# Altium integrated library NSC Logic Multiplexer.IntLib: 335 symbols (part 4 of 7)
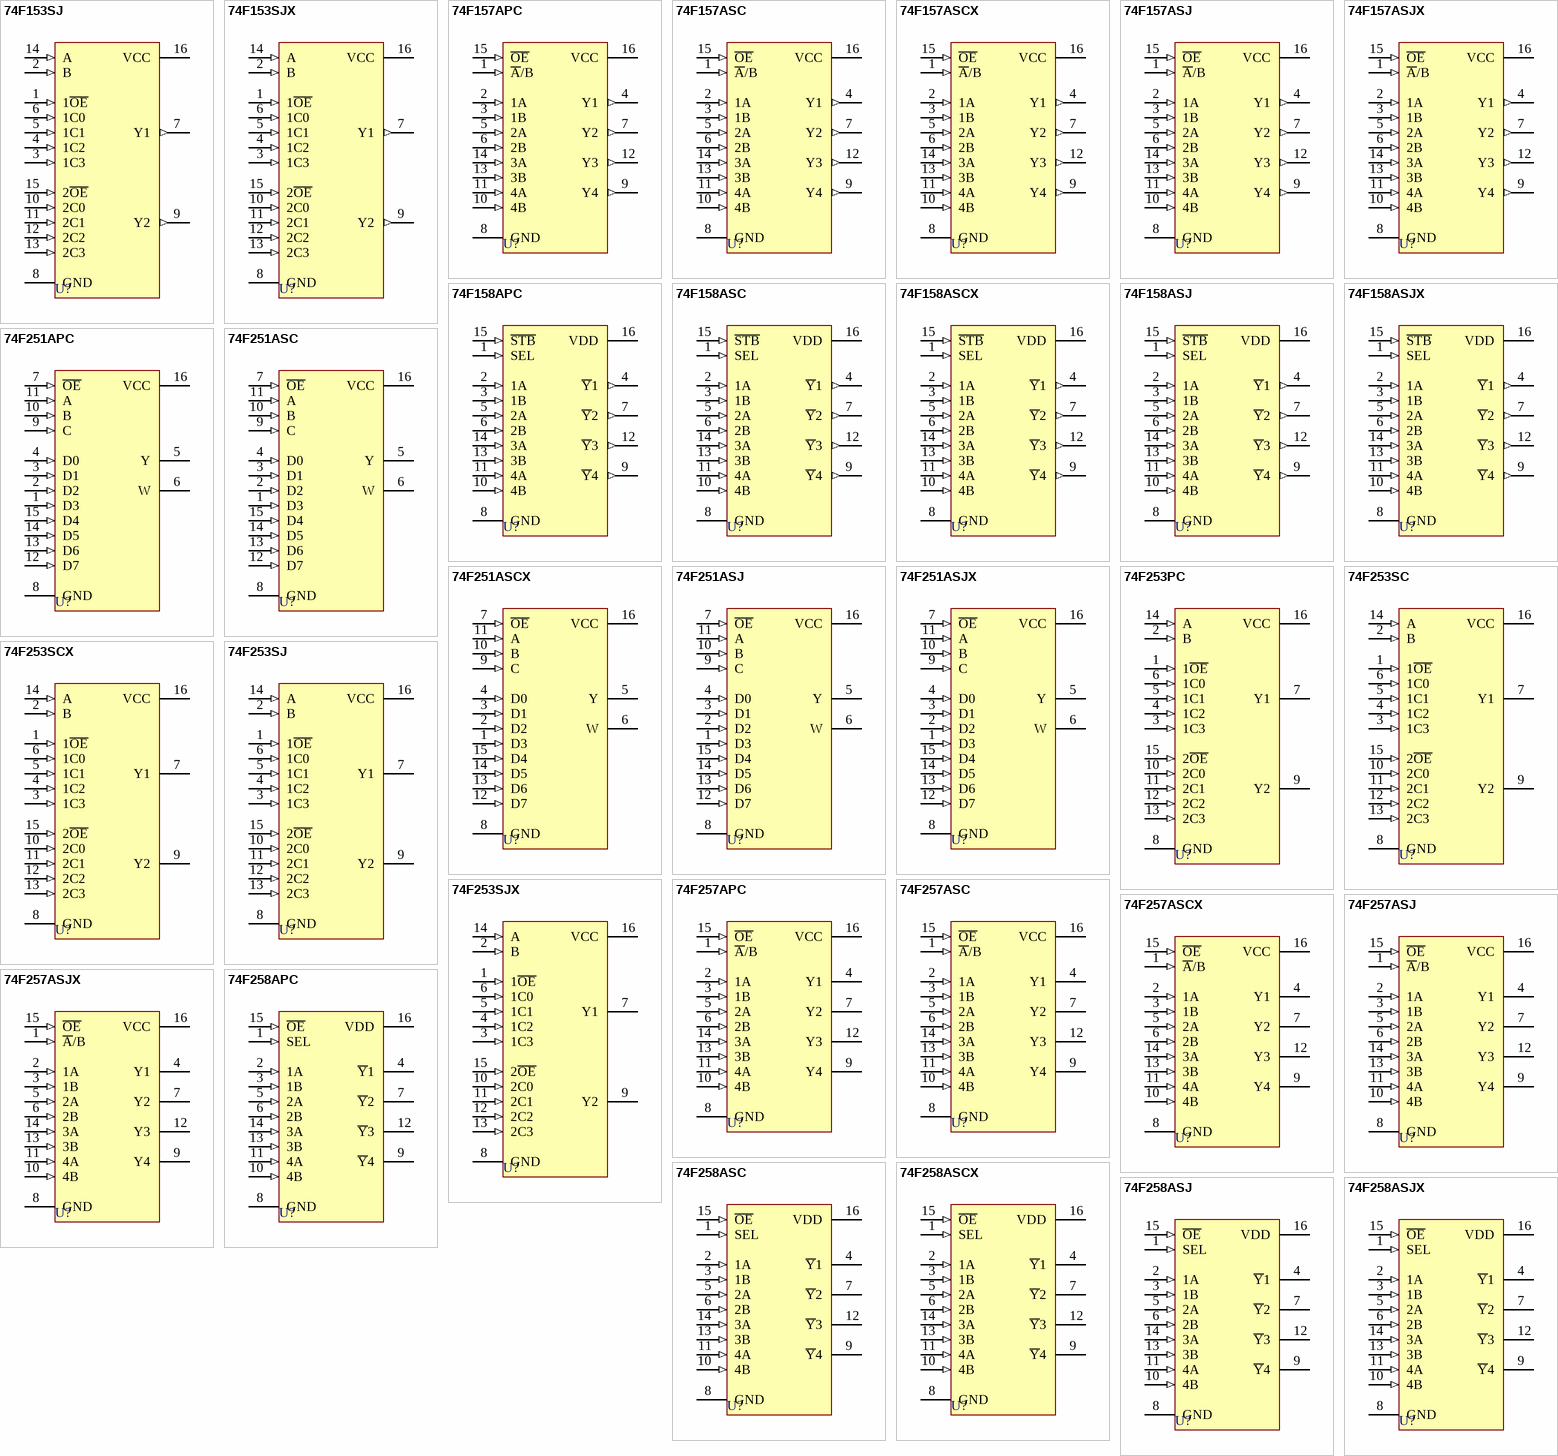
[diagram p13: symbols 74F153SJ to 74F258ASJX]

## 74F158ASC
designator U?
Quad 2-Input Multiplexer; Published: 15-Apr-2002; LatestRevisionDate: 13-Apr-2006; LatestRevisionNote: IPC-7351 Footprint Added.; DatasheetVersion: Nov-1994; PackageVersion: 2000; PackageReference: M16A; Publisher: Altium Limited; PackageDescription: 16-Pin Small Outline Integrated Circuit 1.27 mm Pitch; Code_IPC: SOIC127P600-16; ComponentLink1Description: Manufacturer Link; ComponentLink1URL: http://www.national.com/; ComponentLink2Description: Datasheet; ComponentLink2URL: http://www.fairchildsemi.com/ds/74/74F158A.pdf; ComponentLink3Description: URL Link1; ComponentLink3URL: http://www.fairchildsemi.com/pf/74/74F158A.html
footprint M16A_N (SOIC, 16-Leads, Body 9.9x3.9mm, Pitch 1.27mm, IPC Medium Density)
footprint M16A_L (SOIC, 16-Leads, Body 9.9x3.9mm, Pitch 1.27mm, IPC High Density)
footprint M16A_M (SOIC, 16-Leads, Body 9.9x3.9mm, Pitch 1.27mm, IPC Low Density)
3D model M16A (16-Pin Small Outline Integrated Circuit 1.27 mm Pitch)
simulation model 74F158A (SIMCODE)
signal-integrity model 74F158ASC
pins: 1 SEL (in), 2 1A (in), 3 1B (in), 4 ~{Y}1 (out), 5 2A (in), 6 2B (in), 7 ~{Y}2 (out), 8 GND (power), 9 ~{Y}4 (out), 10 4B (in), 11 4A (in), 12 ~{Y}3 (out), 13 3B (in), 14 3A (in), 15 ~{STB} (in), 16 VDD (power)

## 74F158ASCX
designator U?
Quad 2-Input Multiplexer; Published: 15-Apr-2002; LatestRevisionDate: 13-Apr-2006; LatestRevisionNote: IPC-7351 Footprint Added.; DatasheetVersion: Nov-1994; PackageVersion: 2000; PackageReference: M16A; Publisher: Altium Limited; PackageDescription: 16-Pin Small Outline Integrated Circuit 1.27 mm Pitch; Code_IPC: SOIC127P600-16; ComponentLink1Description: Manufacturer Link; ComponentLink1URL: http://www.national.com/; ComponentLink2Description: Datasheet; ComponentLink2URL: http://www.fairchildsemi.com/ds/74/74F158A.pdf; ComponentLink3Description: URL Link1; ComponentLink3URL: http://www.fairchildsemi.com/pf/74/74F158A.html
footprint M16A_N (SOIC, 16-Leads, Body 9.9x3.9mm, Pitch 1.27mm, IPC Medium Density)
footprint M16A_L (SOIC, 16-Leads, Body 9.9x3.9mm, Pitch 1.27mm, IPC High Density)
footprint M16A_M (SOIC, 16-Leads, Body 9.9x3.9mm, Pitch 1.27mm, IPC Low Density)
3D model M16A (16-Pin Small Outline Integrated Circuit 1.27 mm Pitch)
simulation model 74F158A (SIMCODE)
signal-integrity model 74F158ASCX
pins: 1 SEL (in), 2 1A (in), 3 1B (in), 4 ~{Y}1 (out), 5 2A (in), 6 2B (in), 7 ~{Y}2 (out), 8 GND (power), 9 ~{Y}4 (out), 10 4B (in), 11 4A (in), 12 ~{Y}3 (out), 13 3B (in), 14 3A (in), 15 ~{STB} (in), 16 VDD (power)

## 74F158ASJ
designator U?
Quad 2-Input Multiplexer; Published: 15-Apr-2002; LatestRevisionDate: 13-Apr-2006; LatestRevisionNote: IPC-7351 Footprint Added.; DatasheetVersion: Nov-1994; PackageVersion: 2000; PackageReference: M16D; Publisher: Altium Limited; PackageDescription: 16-Pin Small Outline Package 1.27 mm Pitch; ComponentLink1Description: Manufacturer Link; ComponentLink1URL: http://www.national.com/; ComponentLink2Description: Datasheet; ComponentLink2URL: http://www.fairchildsemi.com/ds/74/74F158A.pdf; ComponentLink3Description: URL Link1; ComponentLink3URL: http://www.fairchildsemi.com/pf/74/74F158A.html
footprint M16D_N (SOP, 16-Leads, Body 10.1x5.3mm, Pitch 1.27mm, IPC Medium Density)
footprint M16D_L (SOP, 16-Leads, Body 10.1x5.3mm, Pitch 1.27mm, IPC High Density)
footprint M16D_M (SOP, 16-Leads, Body 10.1x5.3mm, Pitch 1.27mm, IPC Low Density)
3D model M16D (16-Pin Small Outline Package 1.27 mm Pitch)
simulation model 74F158A (SIMCODE)
signal-integrity model 74F158ASJ
pins: 1 SEL (in), 2 1A (in), 3 1B (in), 4 ~{Y}1 (out), 5 2A (in), 6 2B (in), 7 ~{Y}2 (out), 8 GND (power), 9 ~{Y}4 (out), 10 4B (in), 11 4A (in), 12 ~{Y}3 (out), 13 3B (in), 14 3A (in), 15 ~{STB} (in), 16 VDD (power)

## 74F158ASJX
designator U?
Quad 2-Input Multiplexer; Published: 15-Apr-2002; LatestRevisionDate: 13-Apr-2006; LatestRevisionNote: IPC-7351 Footprint Added.; DatasheetVersion: Nov-1994; PackageVersion: 2000; PackageReference: M16D; Publisher: Altium Limited; PackageDescription: 16-Pin Small Outline Package 1.27 mm Pitch; ComponentLink1Description: Manufacturer Link; ComponentLink1URL: http://www.national.com/; ComponentLink2Description: Datasheet; ComponentLink2URL: http://www.fairchildsemi.com/ds/74/74F158A.pdf; ComponentLink3Description: URL Link1; ComponentLink3URL: http://www.fairchildsemi.com/pf/74/74F158A.html
footprint M16D_N (SOP, 16-Leads, Body 10.1x5.3mm, Pitch 1.27mm, IPC Medium Density)
footprint M16D_L (SOP, 16-Leads, Body 10.1x5.3mm, Pitch 1.27mm, IPC High Density)
footprint M16D_M (SOP, 16-Leads, Body 10.1x5.3mm, Pitch 1.27mm, IPC Low Density)
3D model M16D (16-Pin Small Outline Package 1.27 mm Pitch)
simulation model 74F158A (SIMCODE)
signal-integrity model 74F158ASJX
pins: 1 SEL (in), 2 1A (in), 3 1B (in), 4 ~{Y}1 (out), 5 2A (in), 6 2B (in), 7 ~{Y}2 (out), 8 GND (power), 9 ~{Y}4 (out), 10 4B (in), 11 4A (in), 12 ~{Y}3 (out), 13 3B (in), 14 3A (in), 15 ~{STB} (in), 16 VDD (power)

## 74F251APC
designator U?
8-Input Multiplexer with Tri-State Outputs; Published: 15-Apr-2002; LatestRevisionDate: 06-Jun-2005; LatestRevisionNote: Stylized 3D Model Added.; DatasheetVersion: Nov-1994; PackageVersion: 2000; PackageReference: N16E; Publisher: Altium Limited; PackageDescription: DIP; 16 Leads; Row Spacing 7.62 mm; Pitch 2.54 mm; ComponentLink1Description: Manufacturer Link; ComponentLink1URL: http://www.national.com/; ComponentLink2Description: Datasheet; ComponentLink2URL: http://www.fairchildsemi.com/ds/74/74F251A.pdf; ComponentLink3Description: URL Link1; ComponentLink3URL: http://www.fairchildsemi.com/pf/74/74F251A.html
footprint N16E (DIP; 16 Leads; Row Spacing 7.62 mm; Pitch 2.54 mm)
3D model J16A (DIP; 16 Leads; Row Spacing 7.62 mm; Pitch 2.54 mm)
simulation model 74F251 (SIMCODE)
signal-integrity model 74F251APC
pins: 1 D3 (in), 2 D2 (in), 3 D1 (in), 4 D0 (in), 5 Y (hiz), 6 W (hiz), 7 ~{OE} (in), 8 GND (power), 9 C (in), 10 B (in), 11 A (in), 12 D7 (in), 13 D6 (in), 14 D5 (in), 15 D4 (in), 16 VCC (power)

## 74F251ASC
designator U?
8-Input Multiplexer with Tri-State Outputs; Published: 15-Apr-2002; LatestRevisionDate: 13-Apr-2006; LatestRevisionNote: IPC-7351 Footprint Added.; DatasheetVersion: Nov-1994; PackageVersion: 2000; PackageReference: M16A; Publisher: Altium Limited; PackageDescription: 16-Pin Small Outline Integrated Circuit 1.27 mm Pitch; Code_IPC: SOIC127P600-16; ComponentLink1Description: Manufacturer Link; ComponentLink1URL: http://www.national.com/; ComponentLink2Description: Datasheet; ComponentLink2URL: http://www.fairchildsemi.com/ds/74/74F251A.pdf; ComponentLink3Description: URL Link1; ComponentLink3URL: http://www.fairchildsemi.com/pf/74/74F251A.html
footprint M16A_N (SOIC, 16-Leads, Body 9.9x3.9mm, Pitch 1.27mm, IPC Medium Density)
footprint M16A_L (SOIC, 16-Leads, Body 9.9x3.9mm, Pitch 1.27mm, IPC High Density)
footprint M16A_M (SOIC, 16-Leads, Body 9.9x3.9mm, Pitch 1.27mm, IPC Low Density)
3D model M16A (16-Pin Small Outline Integrated Circuit 1.27 mm Pitch)
simulation model 74F251 (SIMCODE)
signal-integrity model 74F251ASC
pins: 1 D3 (in), 2 D2 (in), 3 D1 (in), 4 D0 (in), 5 Y (hiz), 6 W (hiz), 7 ~{OE} (in), 8 GND (power), 9 C (in), 10 B (in), 11 A (in), 12 D7 (in), 13 D6 (in), 14 D5 (in), 15 D4 (in), 16 VCC (power)

## 74F251ASCX
designator U?
8-Input Multiplexer with Tri-State Outputs; Published: 15-Apr-2002; LatestRevisionDate: 13-Apr-2006; LatestRevisionNote: IPC-7351 Footprint Added.; DatasheetVersion: Nov-1994; PackageVersion: 2000; PackageReference: M16A; Publisher: Altium Limited; PackageDescription: 16-Pin Small Outline Integrated Circuit 1.27 mm Pitch; Code_IPC: SOIC127P600-16; ComponentLink1Description: Manufacturer Link; ComponentLink1URL: http://www.national.com/; ComponentLink2Description: Datasheet; ComponentLink2URL: http://www.fairchildsemi.com/ds/74/74F251A.pdf; ComponentLink3Description: URL Link1; ComponentLink3URL: http://www.fairchildsemi.com/pf/74/74F251A.html
footprint M16A_N (SOIC, 16-Leads, Body 9.9x3.9mm, Pitch 1.27mm, IPC Medium Density)
footprint M16A_L (SOIC, 16-Leads, Body 9.9x3.9mm, Pitch 1.27mm, IPC High Density)
footprint M16A_M (SOIC, 16-Leads, Body 9.9x3.9mm, Pitch 1.27mm, IPC Low Density)
3D model M16A (16-Pin Small Outline Integrated Circuit 1.27 mm Pitch)
simulation model 74F251 (SIMCODE)
signal-integrity model 74F251ASCX
pins: 1 D3 (in), 2 D2 (in), 3 D1 (in), 4 D0 (in), 5 Y (hiz), 6 W (hiz), 7 ~{OE} (in), 8 GND (power), 9 C (in), 10 B (in), 11 A (in), 12 D7 (in), 13 D6 (in), 14 D5 (in), 15 D4 (in), 16 VCC (power)

## 74F251ASJ
designator U?
8-Input Multiplexer with Tri-State Outputs; Published: 15-Apr-2002; LatestRevisionDate: 13-Apr-2006; LatestRevisionNote: IPC-7351 Footprint Added.; DatasheetVersion: Nov-1994; PackageVersion: 2000; PackageReference: M16D; Publisher: Altium Limited; PackageDescription: 16-Pin Small Outline Package 1.27 mm Pitch; ComponentLink1Description: Manufacturer Link; ComponentLink1URL: http://www.national.com/; ComponentLink2Description: Datasheet; ComponentLink2URL: http://www.fairchildsemi.com/ds/74/74F251A.pdf; ComponentLink3Description: URL Link1; ComponentLink3URL: http://www.fairchildsemi.com/pf/74/74F251A.html
footprint M16D_N (SOP, 16-Leads, Body 10.1x5.3mm, Pitch 1.27mm, IPC Medium Density)
footprint M16D_L (SOP, 16-Leads, Body 10.1x5.3mm, Pitch 1.27mm, IPC High Density)
footprint M16D_M (SOP, 16-Leads, Body 10.1x5.3mm, Pitch 1.27mm, IPC Low Density)
3D model M16D (16-Pin Small Outline Package 1.27 mm Pitch)
simulation model 74F251 (SIMCODE)
signal-integrity model 74F251ASJ
pins: 1 D3 (in), 2 D2 (in), 3 D1 (in), 4 D0 (in), 5 Y (hiz), 6 W (hiz), 7 ~{OE} (in), 8 GND (power), 9 C (in), 10 B (in), 11 A (in), 12 D7 (in), 13 D6 (in), 14 D5 (in), 15 D4 (in), 16 VCC (power)

## 74F251ASJX
designator U?
8-Input Multiplexer with Tri-State Outputs; Published: 15-Apr-2002; LatestRevisionDate: 13-Apr-2006; LatestRevisionNote: IPC-7351 Footprint Added.; DatasheetVersion: Nov-1994; PackageVersion: 2000; PackageReference: M16D; Publisher: Altium Limited; PackageDescription: 16-Pin Small Outline Package 1.27 mm Pitch; ComponentLink1Description: Manufacturer Link; ComponentLink1URL: http://www.national.com/; ComponentLink2Description: Datasheet; ComponentLink2URL: http://www.fairchildsemi.com/ds/74/74F251A.pdf; ComponentLink3Description: URL Link1; ComponentLink3URL: http://www.fairchildsemi.com/pf/74/74F251A.html
footprint M16D_N (SOP, 16-Leads, Body 10.1x5.3mm, Pitch 1.27mm, IPC Medium Density)
footprint M16D_L (SOP, 16-Leads, Body 10.1x5.3mm, Pitch 1.27mm, IPC High Density)
footprint M16D_M (SOP, 16-Leads, Body 10.1x5.3mm, Pitch 1.27mm, IPC Low Density)
3D model M16D (16-Pin Small Outline Package 1.27 mm Pitch)
simulation model 74F251 (SIMCODE)
signal-integrity model 74F251ASJX
pins: 1 D3 (in), 2 D2 (in), 3 D1 (in), 4 D0 (in), 5 Y (hiz), 6 W (hiz), 7 ~{OE} (in), 8 GND (power), 9 C (in), 10 B (in), 11 A (in), 12 D7 (in), 13 D6 (in), 14 D5 (in), 15 D4 (in), 16 VCC (power)

## 74F253PC
designator U?
Dual 4-Input Multiplexer with Tri-State Outputs; Published: 15-Apr-2002; LatestRevisionDate: 06-Jun-2005; LatestRevisionNote: Stylized 3D Model Added.; DatasheetVersion: Nov-1994; PackageVersion: 2000; PackageReference: N16E; Publisher: Altium Limited; PackageDescription: DIP; 16 Leads; Row Spacing 7.62 mm; Pitch 2.54 mm; ComponentLink1Description: Manufacturer Link; ComponentLink1URL: http://www.national.com/; ComponentLink2Description: Datasheet; ComponentLink2URL: http://www.fairchildsemi.com/ds/74/74F253.pdf; ComponentLink3Description: URL Link1; ComponentLink3URL: http://www.fairchildsemi.com/pf/74/74F253.html
footprint N16E (DIP; 16 Leads; Row Spacing 7.62 mm; Pitch 2.54 mm)
3D model J16A (DIP; 16 Leads; Row Spacing 7.62 mm; Pitch 2.54 mm)
simulation model 74F253 (SIMCODE)
signal-integrity model 74F253PC
pins: 1 1~{OE} (in), 2 B (in), 3 1C3 (in), 4 1C2 (in), 5 1C1 (in), 6 1C0 (in), 7 Y1 (hiz), 8 GND (power), 9 Y2 (hiz), 10 2C0 (in), 11 2C1 (in), 12 2C2 (in), 13 2C3 (in), 14 A (in), 15 2~{OE} (in), 16 VCC (power)

## 74F253SC
designator U?
Dual 4-Input Multiplexer with Tri-State Outputs; Published: 15-Apr-2002; LatestRevisionDate: 13-Apr-2006; LatestRevisionNote: IPC-7351 Footprint Added.; DatasheetVersion: Nov-1994; PackageVersion: 2000; PackageReference: M16A; Publisher: Altium Limited; PackageDescription: 16-Pin Small Outline Integrated Circuit 1.27 mm Pitch; Code_IPC: SOIC127P600-16; ComponentLink1Description: Manufacturer Link; ComponentLink1URL: http://www.national.com/; ComponentLink2Description: Datasheet; ComponentLink2URL: http://www.fairchildsemi.com/ds/74/74F253.pdf; ComponentLink3Description: URL Link1; ComponentLink3URL: http://www.fairchildsemi.com/pf/74/74F253.html
footprint M16A_N (SOIC, 16-Leads, Body 9.9x3.9mm, Pitch 1.27mm, IPC Medium Density)
footprint M16A_L (SOIC, 16-Leads, Body 9.9x3.9mm, Pitch 1.27mm, IPC High Density)
footprint M16A_M (SOIC, 16-Leads, Body 9.9x3.9mm, Pitch 1.27mm, IPC Low Density)
3D model M16A (16-Pin Small Outline Integrated Circuit 1.27 mm Pitch)
simulation model 74F253 (SIMCODE)
signal-integrity model 74F253SC
pins: 1 1~{OE} (in), 2 B (in), 3 1C3 (in), 4 1C2 (in), 5 1C1 (in), 6 1C0 (in), 7 Y1 (hiz), 8 GND (power), 9 Y2 (hiz), 10 2C0 (in), 11 2C1 (in), 12 2C2 (in), 13 2C3 (in), 14 A (in), 15 2~{OE} (in), 16 VCC (power)

## 74F253SCX
designator U?
Dual 4-Input Multiplexer with Tri-State Outputs; Published: 15-Apr-2002; LatestRevisionDate: 13-Apr-2006; LatestRevisionNote: IPC-7351 Footprint Added.; DatasheetVersion: Nov-1994; PackageVersion: 2000; PackageReference: M16A; Publisher: Altium Limited; PackageDescription: 16-Pin Small Outline Integrated Circuit 1.27 mm Pitch; Code_IPC: SOIC127P600-16; ComponentLink1Description: Manufacturer Link; ComponentLink1URL: http://www.national.com/; ComponentLink2Description: Datasheet; ComponentLink2URL: http://www.fairchildsemi.com/ds/74/74F253.pdf; ComponentLink3Description: URL Link1; ComponentLink3URL: http://www.fairchildsemi.com/pf/74/74F253.html
footprint M16A_N (SOIC, 16-Leads, Body 9.9x3.9mm, Pitch 1.27mm, IPC Medium Density)
footprint M16A_L (SOIC, 16-Leads, Body 9.9x3.9mm, Pitch 1.27mm, IPC High Density)
footprint M16A_M (SOIC, 16-Leads, Body 9.9x3.9mm, Pitch 1.27mm, IPC Low Density)
3D model M16A (16-Pin Small Outline Integrated Circuit 1.27 mm Pitch)
simulation model 74F253 (SIMCODE)
signal-integrity model 74F253SCX
pins: 1 1~{OE} (in), 2 B (in), 3 1C3 (in), 4 1C2 (in), 5 1C1 (in), 6 1C0 (in), 7 Y1 (hiz), 8 GND (power), 9 Y2 (hiz), 10 2C0 (in), 11 2C1 (in), 12 2C2 (in), 13 2C3 (in), 14 A (in), 15 2~{OE} (in), 16 VCC (power)

## 74F253SJ
designator U?
Dual 4-Input Multiplexer with Tri-State Outputs; Published: 15-Apr-2002; LatestRevisionDate: 13-Apr-2006; LatestRevisionNote: IPC-7351 Footprint Added.; DatasheetVersion: Nov-1994; PackageVersion: 2000; PackageReference: M16D; Publisher: Altium Limited; PackageDescription: 16-Pin Small Outline Package 1.27 mm Pitch; ComponentLink1Description: Manufacturer Link; ComponentLink1URL: http://www.national.com/; ComponentLink2Description: Datasheet; ComponentLink2URL: http://www.fairchildsemi.com/ds/74/74F253.pdf; ComponentLink3Description: URL Link1; ComponentLink3URL: http://www.fairchildsemi.com/pf/74/74F253.html
footprint M16D_N (SOP, 16-Leads, Body 10.1x5.3mm, Pitch 1.27mm, IPC Medium Density)
footprint M16D_L (SOP, 16-Leads, Body 10.1x5.3mm, Pitch 1.27mm, IPC High Density)
footprint M16D_M (SOP, 16-Leads, Body 10.1x5.3mm, Pitch 1.27mm, IPC Low Density)
3D model M16D (16-Pin Small Outline Package 1.27 mm Pitch)
simulation model 74F253 (SIMCODE)
signal-integrity model 74F253SJ
pins: 1 1~{OE} (in), 2 B (in), 3 1C3 (in), 4 1C2 (in), 5 1C1 (in), 6 1C0 (in), 7 Y1 (hiz), 8 GND (power), 9 Y2 (hiz), 10 2C0 (in), 11 2C1 (in), 12 2C2 (in), 13 2C3 (in), 14 A (in), 15 2~{OE} (in), 16 VCC (power)

## 74F253SJX
designator U?
Dual 4-Input Multiplexer with Tri-State Outputs; Published: 15-Apr-2002; LatestRevisionDate: 13-Apr-2006; LatestRevisionNote: IPC-7351 Footprint Added.; DatasheetVersion: Nov-1994; PackageVersion: 2000; PackageReference: M16D; Publisher: Altium Limited; PackageDescription: 16-Pin Small Outline Package 1.27 mm Pitch; ComponentLink1Description: Manufacturer Link; ComponentLink1URL: http://www.national.com/; ComponentLink2Description: Datasheet; ComponentLink2URL: http://www.fairchildsemi.com/ds/74/74F253.pdf; ComponentLink3Description: URL Link1; ComponentLink3URL: http://www.fairchildsemi.com/pf/74/74F253.html
footprint M16D_N (SOP, 16-Leads, Body 10.1x5.3mm, Pitch 1.27mm, IPC Medium Density)
footprint M16D_L (SOP, 16-Leads, Body 10.1x5.3mm, Pitch 1.27mm, IPC High Density)
footprint M16D_M (SOP, 16-Leads, Body 10.1x5.3mm, Pitch 1.27mm, IPC Low Density)
3D model M16D (16-Pin Small Outline Package 1.27 mm Pitch)
simulation model 74F253 (SIMCODE)
signal-integrity model 74F253SJX
pins: 1 1~{OE} (in), 2 B (in), 3 1C3 (in), 4 1C2 (in), 5 1C1 (in), 6 1C0 (in), 7 Y1 (hiz), 8 GND (power), 9 Y2 (hiz), 10 2C0 (in), 11 2C1 (in), 12 2C2 (in), 13 2C3 (in), 14 A (in), 15 2~{OE} (in), 16 VCC (power)

## 74F257APC
designator U?
Quad 2-Input Multiplexer with Tri-State Outputs; Published: 15-Apr-2002; LatestRevisionDate: 06-Jun-2005; LatestRevisionNote: Stylized 3D Model Added.; DatasheetVersion: Nov-1994; PackageVersion: 2000; PackageReference: N16E; Publisher: Altium Limited; PackageDescription: DIP; 16 Leads; Row Spacing 7.62 mm; Pitch 2.54 mm; ComponentLink1Description: Manufacturer Link; ComponentLink1URL: http://www.national.com/; ComponentLink2Description: Datasheet; ComponentLink2URL: http://www.fairchildsemi.com/ds/74/74F257A.pdf; ComponentLink3Description: URL Link1; ComponentLink3URL: http://www.fairchildsemi.com/pf/74/74F257A.html
footprint N16E (DIP; 16 Leads; Row Spacing 7.62 mm; Pitch 2.54 mm)
3D model J16A (DIP; 16 Leads; Row Spacing 7.62 mm; Pitch 2.54 mm)
simulation model 74F257A (SIMCODE)
signal-integrity model 74F257APC
pins: 1 ~{A}/B (in), 2 1A (in), 3 1B (in), 4 Y1 (hiz), 5 2A (in), 6 2B (in), 7 Y2 (hiz), 8 GND (power), 9 Y4 (hiz), 10 4B (in), 11 4A (in), 12 Y3 (hiz), 13 3B (in), 14 3A (in), 15 ~{OE} (in), 16 VCC (power)

## 74F257ASC
designator U?
Quad 2-Input Multiplexer with Tri-State Outputs; Published: 15-Apr-2002; LatestRevisionDate: 13-Apr-2006; LatestRevisionNote: IPC-7351 Footprint Added.; DatasheetVersion: Nov-1994; PackageVersion: 2000; PackageReference: M16A; Publisher: Altium Limited; PackageDescription: 16-Pin Small Outline Integrated Circuit 1.27 mm Pitch; Code_IPC: SOIC127P600-16; ComponentLink1Description: Manufacturer Link; ComponentLink1URL: http://www.national.com/; ComponentLink2Description: Datasheet; ComponentLink2URL: http://www.fairchildsemi.com/ds/74/74F257A.pdf; ComponentLink3Description: URL Link1; ComponentLink3URL: http://www.fairchildsemi.com/pf/74/74F257A.html
footprint M16A_N (SOIC, 16-Leads, Body 9.9x3.9mm, Pitch 1.27mm, IPC Medium Density)
footprint M16A_L (SOIC, 16-Leads, Body 9.9x3.9mm, Pitch 1.27mm, IPC High Density)
footprint M16A_M (SOIC, 16-Leads, Body 9.9x3.9mm, Pitch 1.27mm, IPC Low Density)
3D model M16A (16-Pin Small Outline Integrated Circuit 1.27 mm Pitch)
simulation model 74F257A (SIMCODE)
signal-integrity model 74F257ASC
pins: 1 ~{A}/B (in), 2 1A (in), 3 1B (in), 4 Y1 (hiz), 5 2A (in), 6 2B (in), 7 Y2 (hiz), 8 GND (power), 9 Y4 (hiz), 10 4B (in), 11 4A (in), 12 Y3 (hiz), 13 3B (in), 14 3A (in), 15 ~{OE} (in), 16 VCC (power)

## 74F257ASCX
designator U?
Quad 2-Input Multiplexer with Tri-State Outputs; Published: 15-Apr-2002; LatestRevisionDate: 13-Apr-2006; LatestRevisionNote: IPC-7351 Footprint Added.; DatasheetVersion: Nov-1994; PackageVersion: 2000; PackageReference: M16A; Publisher: Altium Limited; PackageDescription: 16-Pin Small Outline Integrated Circuit 1.27 mm Pitch; Code_IPC: SOIC127P600-16; ComponentLink1Description: Manufacturer Link; ComponentLink1URL: http://www.national.com/; ComponentLink2Description: Datasheet; ComponentLink2URL: http://www.fairchildsemi.com/ds/74/74F257A.pdf; ComponentLink3Description: URL Link1; ComponentLink3URL: http://www.fairchildsemi.com/pf/74/74F257A.html
footprint M16A_N (SOIC, 16-Leads, Body 9.9x3.9mm, Pitch 1.27mm, IPC Medium Density)
footprint M16A_L (SOIC, 16-Leads, Body 9.9x3.9mm, Pitch 1.27mm, IPC High Density)
footprint M16A_M (SOIC, 16-Leads, Body 9.9x3.9mm, Pitch 1.27mm, IPC Low Density)
3D model M16A (16-Pin Small Outline Integrated Circuit 1.27 mm Pitch)
simulation model 74F257A (SIMCODE)
signal-integrity model 74F257ASCX
pins: 1 ~{A}/B (in), 2 1A (in), 3 1B (in), 4 Y1 (hiz), 5 2A (in), 6 2B (in), 7 Y2 (hiz), 8 GND (power), 9 Y4 (hiz), 10 4B (in), 11 4A (in), 12 Y3 (hiz), 13 3B (in), 14 3A (in), 15 ~{OE} (in), 16 VCC (power)

## 74F257ASJ
designator U?
Quad 2-Input Multiplexer with Tri-State Outputs; Published: 15-Apr-2002; LatestRevisionDate: 13-Apr-2006; LatestRevisionNote: IPC-7351 Footprint Added.; DatasheetVersion: Nov-1994; PackageVersion: 2000; PackageReference: M16D; Publisher: Altium Limited; PackageDescription: 16-Pin Small Outline Package 1.27 mm Pitch; ComponentLink1Description: Manufacturer Link; ComponentLink1URL: http://www.national.com/; ComponentLink2Description: Datasheet; ComponentLink2URL: http://www.fairchildsemi.com/ds/74/74F257A.pdf; ComponentLink3Description: URL Link1; ComponentLink3URL: http://www.fairchildsemi.com/pf/74/74F257A.html
footprint M16D_N (SOP, 16-Leads, Body 10.1x5.3mm, Pitch 1.27mm, IPC Medium Density)
footprint M16D_L (SOP, 16-Leads, Body 10.1x5.3mm, Pitch 1.27mm, IPC High Density)
footprint M16D_M (SOP, 16-Leads, Body 10.1x5.3mm, Pitch 1.27mm, IPC Low Density)
3D model M16D (16-Pin Small Outline Package 1.27 mm Pitch)
simulation model 74F257A (SIMCODE)
signal-integrity model 74F257ASJ
pins: 1 ~{A}/B (in), 2 1A (in), 3 1B (in), 4 Y1 (hiz), 5 2A (in), 6 2B (in), 7 Y2 (hiz), 8 GND (power), 9 Y4 (hiz), 10 4B (in), 11 4A (in), 12 Y3 (hiz), 13 3B (in), 14 3A (in), 15 ~{OE} (in), 16 VCC (power)

## 74F257ASJX
designator U?
Quad 2-Input Multiplexer with Tri-State Outputs; Published: 15-Apr-2002; LatestRevisionDate: 13-Apr-2006; LatestRevisionNote: IPC-7351 Footprint Added.; DatasheetVersion: Nov-1994; PackageVersion: 2000; PackageReference: M16D; Publisher: Altium Limited; PackageDescription: 16-Pin Small Outline Package 1.27 mm Pitch; ComponentLink1Description: Manufacturer Link; ComponentLink1URL: http://www.national.com/; ComponentLink2Description: Datasheet; ComponentLink2URL: http://www.fairchildsemi.com/ds/74/74F257A.pdf; ComponentLink3Description: URL Link1; ComponentLink3URL: http://www.fairchildsemi.com/pf/74/74F257A.html
footprint M16D_N (SOP, 16-Leads, Body 10.1x5.3mm, Pitch 1.27mm, IPC Medium Density)
footprint M16D_L (SOP, 16-Leads, Body 10.1x5.3mm, Pitch 1.27mm, IPC High Density)
footprint M16D_M (SOP, 16-Leads, Body 10.1x5.3mm, Pitch 1.27mm, IPC Low Density)
3D model M16D (16-Pin Small Outline Package 1.27 mm Pitch)
simulation model 74F257A (SIMCODE)
signal-integrity model 74F257ASJX
pins: 1 ~{A}/B (in), 2 1A (in), 3 1B (in), 4 Y1 (hiz), 5 2A (in), 6 2B (in), 7 Y2 (hiz), 8 GND (power), 9 Y4 (hiz), 10 4B (in), 11 4A (in), 12 Y3 (hiz), 13 3B (in), 14 3A (in), 15 ~{OE} (in), 16 VCC (power)

## 74F258APC
designator U?
Quad 2-Input Multiplexer with Tri-State Outputs; Published: 15-Apr-2002; LatestRevisionDate: 06-Jun-2005; LatestRevisionNote: Stylized 3D Model Added.; DatasheetVersion: Nov-1994; PackageVersion: 2000; PackageReference: N16E; Publisher: Altium Limited; PackageDescription: DIP; 16 Leads; Row Spacing 7.62 mm; Pitch 2.54 mm; ComponentLink1Description: Manufacturer Link; ComponentLink1URL: http://www.national.com/; ComponentLink2Description: Datasheet; ComponentLink2URL: http://www.national.com/ds.cgi/54/54F258A.pdf; ComponentLink3Description: URL Link1; ComponentLink3URL: http://www.national.com/pf/54/54F258A.html
footprint N16E (DIP; 16 Leads; Row Spacing 7.62 mm; Pitch 2.54 mm)
3D model J16A (DIP; 16 Leads; Row Spacing 7.62 mm; Pitch 2.54 mm)
simulation model 74F258A (SIMCODE)
signal-integrity model 74F258APC
pins: 1 SEL (in), 2 1A (in), 3 1B (in), 4 ~{Y}1 (hiz), 5 2A (in), 6 2B (in), 7 ~{Y}2 (hiz), 8 GND (power), 9 ~{Y}4 (hiz), 10 4B (in), 11 4A (in), 12 ~{Y}3 (hiz), 13 3B (in), 14 3A (in), 15 ~{OE} (in), 16 VDD (power)

## 74F258ASC
designator U?
Quad 2-Input Multiplexer with Tri-State Outputs; ComponentAvailability: Not For New Design; Published: 15-Apr-2002; LatestRevisionDate: 13-Apr-2006; LatestRevisionNote: IPC-7351 Footprint Added.; DatasheetVersion: Nov-1994; PackageVersion: 2000; PackageReference: M16A; Publisher: Altium Limited; PackageDescription: 16-Pin Small Outline Integrated Circuit 1.27 mm Pitch; Code_IPC: SOIC127P600-16; ComponentLink1Description: Manufacturer Link; ComponentLink1URL: http://www.national.com/; ComponentLink2Description: Datasheet; ComponentLink2URL: http://www.fairchildsemi.com/ds/74/74F258A.pdf; ComponentLink3Description: URL Link1; ComponentLink3URL: http://www.fairchildsemi.com/pf/74/74F258A.html
footprint M16A_N (SOIC, 16-Leads, Body 9.9x3.9mm, Pitch 1.27mm, IPC Medium Density)
footprint M16A_L (SOIC, 16-Leads, Body 9.9x3.9mm, Pitch 1.27mm, IPC High Density)
footprint M16A_M (SOIC, 16-Leads, Body 9.9x3.9mm, Pitch 1.27mm, IPC Low Density)
3D model M16A (16-Pin Small Outline Integrated Circuit 1.27 mm Pitch)
simulation model 74F258A (SIMCODE)
signal-integrity model 74F258ASC
pins: 1 SEL (in), 2 1A (in), 3 1B (in), 4 ~{Y}1 (hiz), 5 2A (in), 6 2B (in), 7 ~{Y}2 (hiz), 8 GND (power), 9 ~{Y}4 (hiz), 10 4B (in), 11 4A (in), 12 ~{Y}3 (hiz), 13 3B (in), 14 3A (in), 15 ~{OE} (in), 16 VDD (power)

## 74F258ASCX
designator U?
Quad 2-Input Multiplexer with Tri-State Outputs; Published: 15-Apr-2002; LatestRevisionDate: 13-Apr-2006; LatestRevisionNote: IPC-7351 Footprint Added.; DatasheetVersion: Nov-1994; PackageVersion: 2000; PackageReference: M16A; Publisher: Altium Limited; PackageDescription: 16-Pin Small Outline Integrated Circuit 1.27 mm Pitch; Code_IPC: SOIC127P600-16; ComponentLink1Description: Manufacturer Link; ComponentLink1URL: http://www.national.com/; ComponentLink2Description: Datasheet; ComponentLink2URL: http://www.fairchildsemi.com/ds/74/74F258A.pdf; ComponentLink3Description: URL Link1; ComponentLink3URL: http://www.national.com/pf/54/54F258A.html
footprint M16A_N (SOIC, 16-Leads, Body 9.9x3.9mm, Pitch 1.27mm, IPC Medium Density)
footprint M16A_L (SOIC, 16-Leads, Body 9.9x3.9mm, Pitch 1.27mm, IPC High Density)
footprint M16A_M (SOIC, 16-Leads, Body 9.9x3.9mm, Pitch 1.27mm, IPC Low Density)
3D model M16A (16-Pin Small Outline Integrated Circuit 1.27 mm Pitch)
simulation model 74F258A (SIMCODE)
signal-integrity model 74F258ASCX
pins: 1 SEL (in), 2 1A (in), 3 1B (in), 4 ~{Y}1 (hiz), 5 2A (in), 6 2B (in), 7 ~{Y}2 (hiz), 8 GND (power), 9 ~{Y}4 (hiz), 10 4B (in), 11 4A (in), 12 ~{Y}3 (hiz), 13 3B (in), 14 3A (in), 15 ~{OE} (in), 16 VDD (power)

## 74F258ASJ
designator U?
Quad 2-Input Multiplexer with Tri-State Outputs; Published: 15-Apr-2002; LatestRevisionDate: 13-Apr-2006; LatestRevisionNote: IPC-7351 Footprint Added.; DatasheetVersion: Nov-1994; PackageVersion: 2000; PackageReference: M16D; Publisher: Altium Limited; PackageDescription: 16-Pin Small Outline Package 1.27 mm Pitch; ComponentLink1Description: Manufacturer Link; ComponentLink1URL: http://www.national.com/; ComponentLink2Description: Datasheet; ComponentLink2URL: http://www.national.com/ds.cgi/54/54F258A.pdf; ComponentLink3Description: URL Link1; ComponentLink3URL: http://www.national.com/pf/54/54F258A.html
footprint M16D_N (SOP, 16-Leads, Body 10.1x5.3mm, Pitch 1.27mm, IPC Medium Density)
footprint M16D_L (SOP, 16-Leads, Body 10.1x5.3mm, Pitch 1.27mm, IPC High Density)
footprint M16D_M (SOP, 16-Leads, Body 10.1x5.3mm, Pitch 1.27mm, IPC Low Density)
3D model M16D (16-Pin Small Outline Package 1.27 mm Pitch)
simulation model 74F258A (SIMCODE)
signal-integrity model 74F258ASJ
pins: 1 SEL (in), 2 1A (in), 3 1B (in), 4 ~{Y}1 (hiz), 5 2A (in), 6 2B (in), 7 ~{Y}2 (hiz), 8 GND (power), 9 ~{Y}4 (hiz), 10 4B (in), 11 4A (in), 12 ~{Y}3 (hiz), 13 3B (in), 14 3A (in), 15 ~{OE} (in), 16 VDD (power)

## 74F258ASJX
designator U?
Quad 2-Input Multiplexer with Tri-State Outputs; Published: 15-Apr-2002; LatestRevisionDate: 13-Apr-2006; LatestRevisionNote: IPC-7351 Footprint Added.; DatasheetVersion: Nov-1994; PackageVersion: 2000; PackageReference: M16D; Publisher: Altium Limited; PackageDescription: 16-Pin Small Outline Package 1.27 mm Pitch; ComponentLink1Description: Manufacturer Link; ComponentLink1URL: http://www.national.com/; ComponentLink2Description: Datasheet; ComponentLink2URL: http://www.national.com/ds.cgi/54/54F258A.pdf; ComponentLink3Description: URL Link1; ComponentLink3URL: http://www.national.com/pf/54/54F258A.html
footprint M16D_N (SOP, 16-Leads, Body 10.1x5.3mm, Pitch 1.27mm, IPC Medium Density)
footprint M16D_L (SOP, 16-Leads, Body 10.1x5.3mm, Pitch 1.27mm, IPC High Density)
footprint M16D_M (SOP, 16-Leads, Body 10.1x5.3mm, Pitch 1.27mm, IPC Low Density)
3D model M16D (16-Pin Small Outline Package 1.27 mm Pitch)
simulation model 74F258A (SIMCODE)
signal-integrity model 74F258ASJX
pins: 1 SEL (in), 2 1A (in), 3 1B (in), 4 ~{Y}1 (hiz), 5 2A (in), 6 2B (in), 7 ~{Y}2 (hiz), 8 GND (power), 9 ~{Y}4 (hiz), 10 4B (in), 11 4A (in), 12 ~{Y}3 (hiz), 13 3B (in), 14 3A (in), 15 ~{OE} (in), 16 VDD (power)

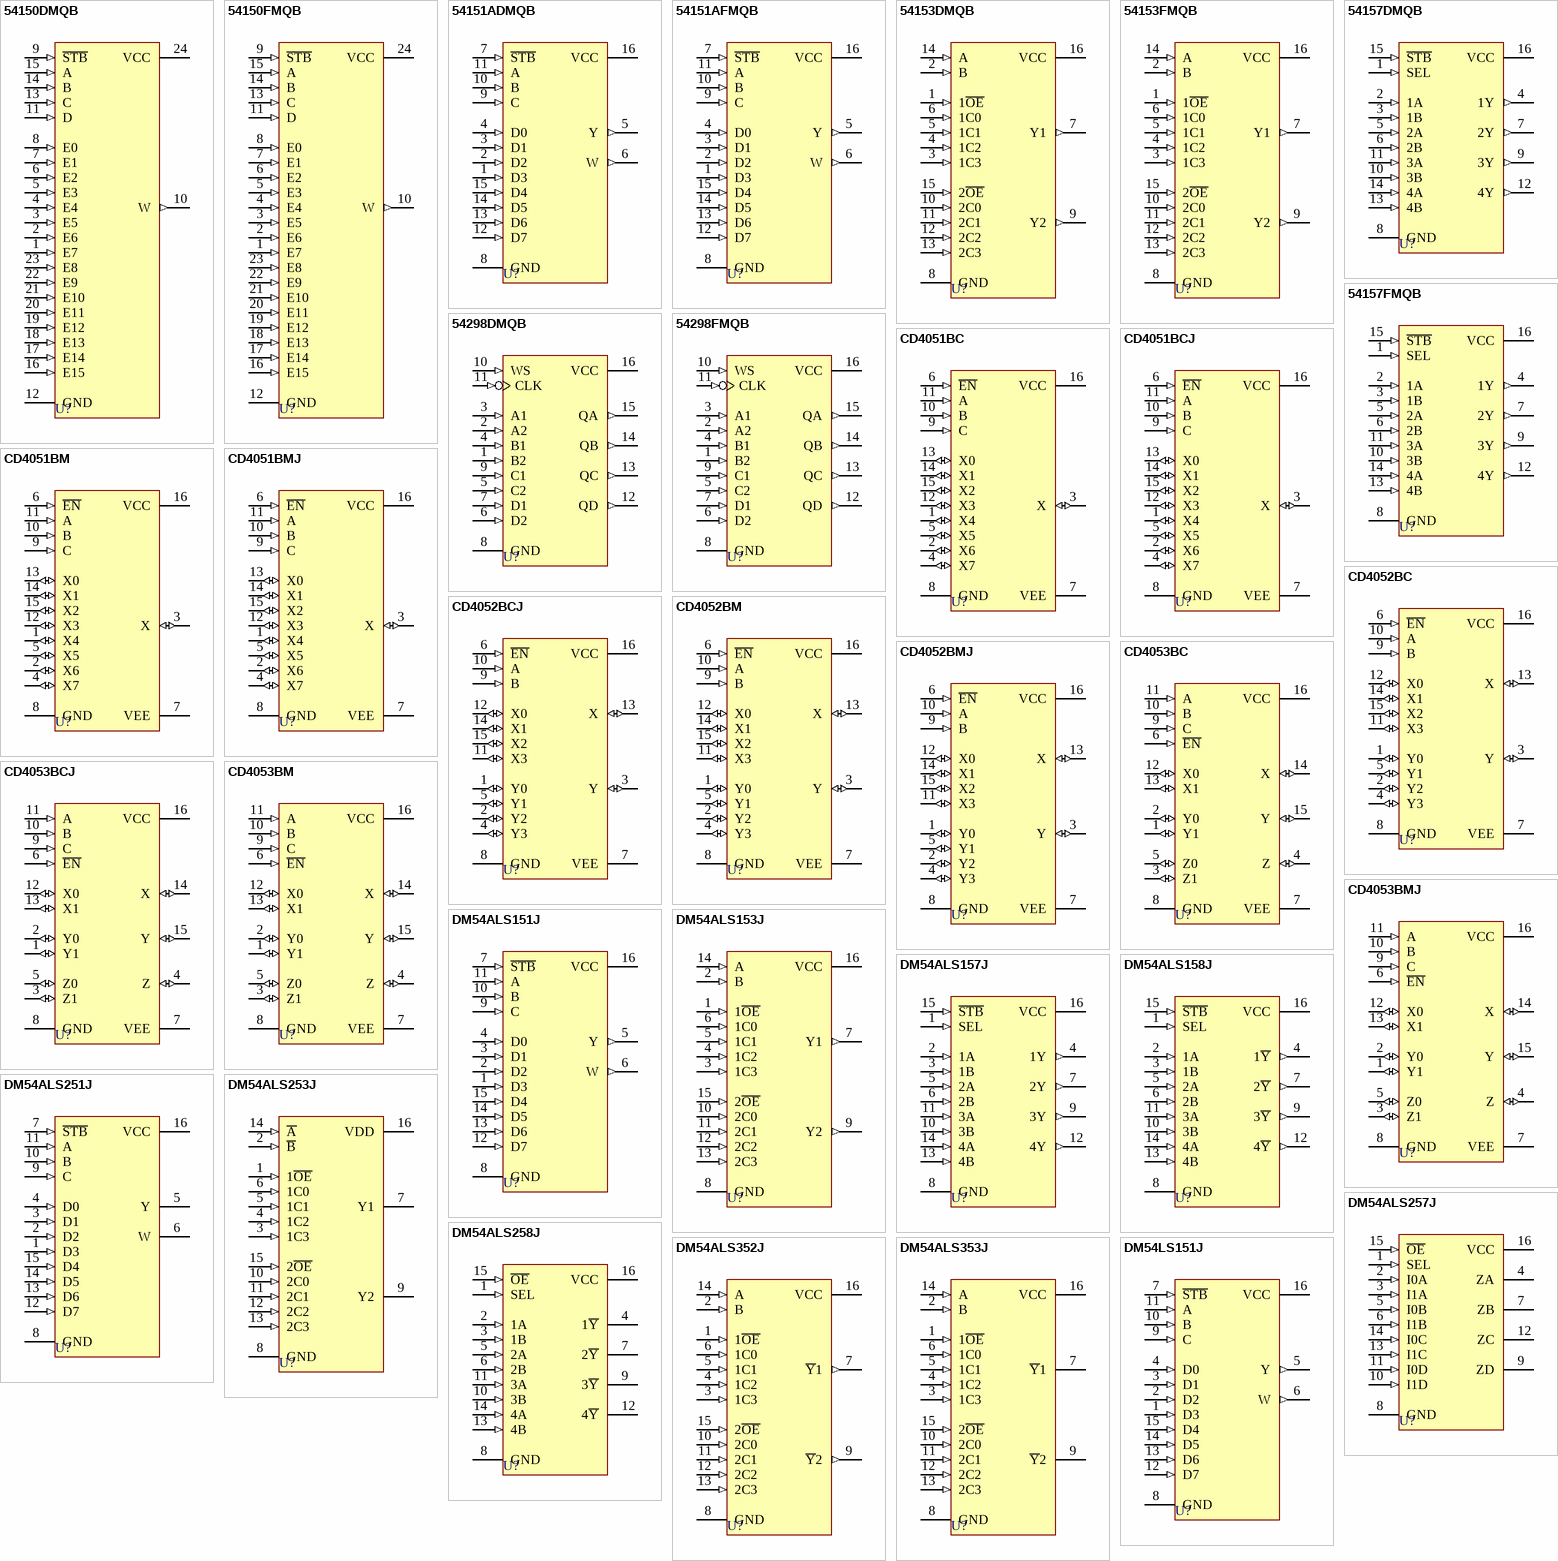
[diagram p5: symbols 54150DMQB to DM54LS151J]

## 54150DMQB
designator U?
Data Selector/Multiplexer; Published: 15-Apr-2002; LatestRevisionDate: 06-Jun-2005; LatestRevisionNote: Stylized 3D Model Added.; DatasheetVersion: Jun-1989; PackageVersion: 2000; PackageReference: J24A; Publisher: Altium Limited; PackageDescription: DIP; 24 Leads; Row Spacing 15.24 mm; Pitch 2.54 mm; ComponentLink1Description: Manufacturer Link; ComponentLink1URL: http://www.national.com/
footprint J24A (DIP; 24 Leads; Row Spacing 15.24 mm; Pitch 2.54 mm)
3D model J24A (DIP; 24 Leads; Row Spacing 15.24 mm; Pitch 2.54 mm)
signal-integrity model 54150DMQB
pins: 1 E7 (in), 2 E6 (in), 3 E5 (in), 4 E4 (in), 5 E3 (in), 6 E2 (in), 7 E1 (in), 8 E0 (in), 9 ~{STB} (in), 10 W (out), 11 D (in), 12 GND (power), 13 C (in), 14 B (in), 15 A (in), 16 E15 (in), 17 E14 (in), 18 E13 (in), 19 E12 (in), 20 E11 (in), 21 E10 (in), 22 E9 (in), 23 E8 (in), 24 VCC (power)

## 54150FMQB
designator U?
Data Selector/Multiplexer; Published: 15-Apr-2002; LatestRevisionDate: 06-Jun-2005; LatestRevisionNote: Stylized 3D Model Added.; DatasheetVersion: Jun-1989; PackageVersion: 2000; PackageReference: W24C; Publisher: Altium Limited; PackageDescription: DFP; 24 Leads; Body 15.6 x 10.7 mm (LxW max); Pitch 1.27 mm; ComponentLink1Description: Manufacturer Link; ComponentLink1URL: http://www.national.com/
footprint W24C (DFP; 24 Leads; Body 15.6 x 10.7 mm (LxW max); Pitch 1.27 mm)
3D model W24C (DFP; 24 Leads; Body 15.6 x 10.7 mm (LxW max); Pitch 1.27 mm)
signal-integrity model 54150FMQB
pins: 1 E7 (in), 2 E6 (in), 3 E5 (in), 4 E4 (in), 5 E3 (in), 6 E2 (in), 7 E1 (in), 8 E0 (in), 9 ~{STB} (in), 10 W (out), 11 D (in), 12 GND (power), 13 C (in), 14 B (in), 15 A (in), 16 E15 (in), 17 E14 (in), 18 E13 (in), 19 E12 (in), 20 E11 (in), 21 E10 (in), 22 E9 (in), 23 E8 (in), 24 VCC (power)

## 54151ADMQB
designator U?
Data Selector/Multiplexer; Published: 15-Apr-2002; LatestRevisionDate: 06-Jun-2005; LatestRevisionNote: Stylized 3D Model Added.; DatasheetVersion: Jun-1989; PackageVersion: 2000; PackageReference: J16A; Publisher: Altium Limited; PackageDescription: DIP; 16 Leads; Row Spacing 7.62 mm; Pitch 2.54 mm; ComponentLink1Description: Manufacturer Link; ComponentLink1URL: http://www.national.com/
footprint J16A (DIP; 16 Leads; Row Spacing 7.62 mm; Pitch 2.54 mm)
3D model J16A (DIP; 16 Leads; Row Spacing 7.62 mm; Pitch 2.54 mm)
signal-integrity model 54151ADMQB
pins: 1 D3 (in), 2 D2 (in), 3 D1 (in), 4 D0 (in), 5 Y (out), 6 W (out), 7 ~{STB} (in), 8 GND (power), 9 C (in), 10 B (in), 11 A (in), 12 D7 (in), 13 D6 (in), 14 D5 (in), 15 D4 (in), 16 VCC (power)

## 54151AFMQB
designator U?
Data Selector/Multiplexer; Published: 15-Apr-2002; LatestRevisionDate: 06-Jun-2005; LatestRevisionNote: Stylized 3D Model Added.; DatasheetVersion: Jun-1989; PackageVersion: 2000; PackageReference: W16A; Publisher: Altium Limited; PackageDescription: DFP; 16 Leads; Body 9.9 x 7.6 mm (LxW max); Pitch 1.27 mm; ComponentLink1Description: Manufacturer Link; ComponentLink1URL: http://www.national.com/
footprint W16A (DFP; 16 Leads; Body 9.9 x 7.6 mm (LxW max); Pitch 1.27 mm)
3D model W16A (DFP; 16 Leads; Body 9.9 x 7.6 mm (LxW max); Pitch 1.27 mm)
signal-integrity model 54151AFMQB
pins: 1 D3 (in), 2 D2 (in), 3 D1 (in), 4 D0 (in), 5 Y (out), 6 W (out), 7 ~{STB} (in), 8 GND (power), 9 C (in), 10 B (in), 11 A (in), 12 D7 (in), 13 D6 (in), 14 D5 (in), 15 D4 (in), 16 VCC (power)

## 54153DMQB
designator U?
Data Selector/Multiplexer; Published: 15-Apr-2002; LatestRevisionDate: 06-Jun-2005; LatestRevisionNote: Stylized 3D Model Added.; DatasheetVersion: Jun-1989; PackageVersion: 2000; PackageReference: J16A; Publisher: Altium Limited; PackageDescription: DIP; 16 Leads; Row Spacing 7.62 mm; Pitch 2.54 mm; ComponentLink1Description: Manufacturer Link; ComponentLink1URL: http://www.national.com/; ComponentLink2Description: Datasheet; ComponentLink2URL: http://www.national.com/ds.cgi/54/54153.pdf; ComponentLink3Description: URL Link1; ComponentLink3URL: http://www.national.com/pf/54/54153.html
footprint J16A (DIP; 16 Leads; Row Spacing 7.62 mm; Pitch 2.54 mm)
3D model J16A (DIP; 16 Leads; Row Spacing 7.62 mm; Pitch 2.54 mm)
signal-integrity model 54153DMQB
pins: 1 1~{OE} (in), 2 B (in), 3 1C3 (in), 4 1C2 (in), 5 1C1 (in), 6 1C0 (in), 7 Y1 (out), 8 GND (power), 9 Y2 (out), 10 2C0 (in), 11 2C1 (in), 12 2C2 (in), 13 2C3 (in), 14 A (in), 15 2~{OE} (in), 16 VCC (power)

## 54153FMQB
designator U?
Data Selector/Multiplexer; Published: 15-Apr-2002; LatestRevisionDate: 06-Jun-2005; LatestRevisionNote: Stylized 3D Model Added.; DatasheetVersion: Jun-1989; PackageVersion: 2000; PackageReference: W16A; Publisher: Altium Limited; PackageDescription: DFP; 16 Leads; Body 9.9 x 7.6 mm (LxW max); Pitch 1.27 mm; ComponentLink1Description: Manufacturer Link; ComponentLink1URL: http://www.national.com/; ComponentLink2Description: Datasheet; ComponentLink2URL: http://www.national.com/ds.cgi/54/54153.pdf; ComponentLink3Description: URL Link1; ComponentLink3URL: http://www.national.com/pf/54/54153.html
footprint W16A (DFP; 16 Leads; Body 9.9 x 7.6 mm (LxW max); Pitch 1.27 mm)
3D model W16A (DFP; 16 Leads; Body 9.9 x 7.6 mm (LxW max); Pitch 1.27 mm)
signal-integrity model 54153FMQB
pins: 1 1~{OE} (in), 2 B (in), 3 1C3 (in), 4 1C2 (in), 5 1C1 (in), 6 1C0 (in), 7 Y1 (out), 8 GND (power), 9 Y2 (out), 10 2C0 (in), 11 2C1 (in), 12 2C2 (in), 13 2C3 (in), 14 A (in), 15 2~{OE} (in), 16 VCC (power)

## 54157DMQB
designator U?
Quad 2-Line to 1-Line Data Selector/Multiplexer; Published: 15-Apr-2002; LatestRevisionDate: 06-Jun-2005; LatestRevisionNote: Stylized 3D Model Added.; DatasheetVersion: Jun-1989; PackageVersion: 2000; PackageReference: J16A; Publisher: Altium Limited; PackageDescription: DIP; 16 Leads; Row Spacing 7.62 mm; Pitch 2.54 mm; ComponentLink1Description: Manufacturer Link; ComponentLink1URL: http://www.national.com/
footprint J16A (DIP; 16 Leads; Row Spacing 7.62 mm; Pitch 2.54 mm)
3D model J16A (DIP; 16 Leads; Row Spacing 7.62 mm; Pitch 2.54 mm)
signal-integrity model 54157DMQB
pins: 1 SEL (in), 2 1A (in), 3 1B (in), 4 1Y (out), 5 2A (in), 6 2B (in), 7 2Y (out), 8 GND (power), 9 3Y (out), 10 3B (in), 11 3A (in), 12 4Y (out), 13 4B (in), 14 4A (in), 15 ~{STB} (in), 16 VCC (power)

## 54157FMQB
designator U?
Quad 2-Line to 1-Line Data Selector/Multiplexer; Published: 15-Apr-2002; LatestRevisionDate: 06-Jun-2005; LatestRevisionNote: Stylized 3D Model Added.; DatasheetVersion: Jun-1989; PackageVersion: 2000; PackageReference: W16A; Publisher: Altium Limited; PackageDescription: DFP; 16 Leads; Body 9.9 x 7.6 mm (LxW max); Pitch 1.27 mm; ComponentLink1Description: Manufacturer Link; ComponentLink1URL: http://www.national.com/
footprint W16A (DFP; 16 Leads; Body 9.9 x 7.6 mm (LxW max); Pitch 1.27 mm)
3D model W16A (DFP; 16 Leads; Body 9.9 x 7.6 mm (LxW max); Pitch 1.27 mm)
signal-integrity model 54157FMQB
pins: 1 SEL (in), 2 1A (in), 3 1B (in), 4 1Y (out), 5 2A (in), 6 2B (in), 7 2Y (out), 8 GND (power), 9 3Y (out), 10 3B (in), 11 3A (in), 12 4Y (out), 13 4B (in), 14 4A (in), 15 ~{STB} (in), 16 VCC (power)

## 54298DMQB
designator U?
Quad 2-Port Register (Multiplexer with Storage); Published: 15-Apr-2002; LatestRevisionDate: 06-Jun-2005; LatestRevisionNote: Stylized 3D Model Added.; DatasheetVersion: Jun-1989; PackageVersion: 2000; PackageReference: J16A; Publisher: Altium Limited; PackageDescription: DIP; 16 Leads; Row Spacing 7.62 mm; Pitch 2.54 mm; ComponentLink1Description: Manufacturer Link; ComponentLink1URL: http://www.national.com/; ComponentLink2Description: Datasheet; ComponentLink2URL: http://www.national.com/ds.cgi/54/54298.pdf; ComponentLink3Description: URL Link1; ComponentLink3URL: http://www.national.com/pf/54/54298.html
footprint J16A (DIP; 16 Leads; Row Spacing 7.62 mm; Pitch 2.54 mm)
3D model J16A (DIP; 16 Leads; Row Spacing 7.62 mm; Pitch 2.54 mm)
simulation model 74LS298 (SIMCODE)
signal-integrity model 54298DMQB
pins: 1 B2 (in), 2 A2 (in), 3 A1 (in), 4 B1 (in), 5 C2 (in), 6 D2 (in), 7 D1 (in), 8 GND (power), 9 C1 (in), 10 WS (in), 11 CLK (in), 12 QD (out), 13 QC (out), 14 QB (out), 15 QA (out), 16 VCC (power)

## 54298FMQB
designator U?
Quad 2-Port Register (Multiplexer with Storage); Published: 15-Apr-2002; LatestRevisionDate: 06-Jun-2005; LatestRevisionNote: Stylized 3D Model Added.; DatasheetVersion: Jun-1989; PackageVersion: 2000; PackageReference: W16A; Publisher: Altium Limited; PackageDescription: DFP; 16 Leads; Body 9.9 x 7.6 mm (LxW max); Pitch 1.27 mm; ComponentLink1Description: Manufacturer Link; ComponentLink1URL: http://www.national.com/; ComponentLink2Description: Datasheet; ComponentLink2URL: http://www.national.com/ds.cgi/54/54298.pdf; ComponentLink3Description: URL Link1; ComponentLink3URL: http://www.national.com/pf/54/54298.html
footprint W16A (DFP; 16 Leads; Body 9.9 x 7.6 mm (LxW max); Pitch 1.27 mm)
3D model W16A (DFP; 16 Leads; Body 9.9 x 7.6 mm (LxW max); Pitch 1.27 mm)
simulation model 74LS298 (SIMCODE)
signal-integrity model 54298FMQB
pins: 1 B2 (in), 2 A2 (in), 3 A1 (in), 4 B1 (in), 5 C2 (in), 6 D2 (in), 7 D1 (in), 8 GND (power), 9 C1 (in), 10 WS (in), 11 CLK (in), 12 QD (out), 13 QC (out), 14 QB (out), 15 QA (out), 16 VCC (power)

## CD4051BC
designator U?
8-Channel Analog Multiplexer/Demultiplexer; Published: 15-Apr-2002; LatestRevisionDate: 06-Jun-2005; LatestRevisionNote: Stylized 3D Model Added.; DatasheetVersion: Oct-1989; PackageVersion: 2000; PackageReference: N16E; Publisher: Altium Limited; PackageDescription: DIP; 16 Leads; Row Spacing 7.62 mm; Pitch 2.54 mm; ComponentLink1Description: Manufacturer Link; ComponentLink1URL: http://www.national.com/; ComponentLink2Description: Datasheet; ComponentLink2URL: http://www.national.com/ds.cgi/CD/CD4051BC.pdf; ComponentLink3Description: URL Link1; ComponentLink3URL: http://www.national.com/pf/CD/CD4051BC.html
footprint N16E (DIP; 16 Leads; Row Spacing 7.62 mm; Pitch 2.54 mm)
3D model J16A (DIP; 16 Leads; Row Spacing 7.62 mm; Pitch 2.54 mm)
pins: 1 X4 (io), 2 X6 (io), 3 X (io), 4 X7 (io), 5 X5 (io), 6 ~{EN} (in), 7 VEE (power), 8 GND (power), 9 C (in), 10 B (in), 11 A (in), 12 X3 (io), 13 X0 (io), 14 X1 (io), 15 X2 (io), 16 VCC (power)

## CD4051BCJ
designator U?
8-Channel Analog Multiplexer/Demultiplexer; Published: 15-Apr-2002; LatestRevisionDate: 06-Jun-2005; LatestRevisionNote: Stylized 3D Model Added.; DatasheetVersion: Oct-1989; PackageVersion: 2000; PackageReference: J16A; Publisher: Altium Limited; PackageDescription: DIP; 16 Leads; Row Spacing 7.62 mm; Pitch 2.54 mm; ComponentLink1Description: Manufacturer Link; ComponentLink1URL: http://www.national.com/; ComponentLink2Description: Datasheet; ComponentLink2URL: http://www.national.com/ds.cgi/CD/CD4051BC.pdf; ComponentLink3Description: URL Link1; ComponentLink3URL: http://www.national.com/pf/CD/CD4051BC.html
footprint J16A (DIP; 16 Leads; Row Spacing 7.62 mm; Pitch 2.54 mm)
3D model J16A (DIP; 16 Leads; Row Spacing 7.62 mm; Pitch 2.54 mm)
pins: 1 X4 (io), 2 X6 (io), 3 X (io), 4 X7 (io), 5 X5 (io), 6 ~{EN} (in), 7 VEE (power), 8 GND (power), 9 C (in), 10 B (in), 11 A (in), 12 X3 (io), 13 X0 (io), 14 X1 (io), 15 X2 (io), 16 VCC (power)

## CD4051BM
designator U?
8-Channel Analog Multiplexer/Demultiplexer; Published: 15-Apr-2002; LatestRevisionDate: 06-Jun-2005; LatestRevisionNote: Stylized 3D Model Added.; DatasheetVersion: Oct-1989; PackageVersion: 2000; PackageReference: N16E; Publisher: Altium Limited; PackageDescription: DIP; 16 Leads; Row Spacing 7.62 mm; Pitch 2.54 mm; ComponentLink1Description: Manufacturer Link; ComponentLink1URL: http://www.national.com/; ComponentLink2Description: Datasheet; ComponentLink2URL: http://www.national.com/ds.cgi/CD/CD4051BC.pdf; ComponentLink3Description: URL Link1; ComponentLink3URL: http://www.national.com/pf/CD/CD4051BM.html
footprint N16E (DIP; 16 Leads; Row Spacing 7.62 mm; Pitch 2.54 mm)
3D model J16A (DIP; 16 Leads; Row Spacing 7.62 mm; Pitch 2.54 mm)
pins: 1 X4 (io), 2 X6 (io), 3 X (io), 4 X7 (io), 5 X5 (io), 6 ~{EN} (in), 7 VEE (power), 8 GND (power), 9 C (in), 10 B (in), 11 A (in), 12 X3 (io), 13 X0 (io), 14 X1 (io), 15 X2 (io), 16 VCC (power)

## CD4051BMJ
designator U?
8-Channel Analog Multiplexer/Demultiplexer; Published: 15-Apr-2002; LatestRevisionDate: 06-Jun-2005; LatestRevisionNote: Stylized 3D Model Added.; DatasheetVersion: Oct-1989; PackageVersion: 2000; PackageReference: J16A; Publisher: Altium Limited; PackageDescription: DIP; 16 Leads; Row Spacing 7.62 mm; Pitch 2.54 mm; ComponentLink1Description: Manufacturer Link; ComponentLink1URL: http://www.national.com/; ComponentLink2Description: Datasheet; ComponentLink2URL: http://www.national.com/ds.cgi/CD/CD4051BC.pdf; ComponentLink3Description: URL Link1; ComponentLink3URL: http://www.national.com/pf/CD/CD4051BM.html
footprint J16A (DIP; 16 Leads; Row Spacing 7.62 mm; Pitch 2.54 mm)
3D model J16A (DIP; 16 Leads; Row Spacing 7.62 mm; Pitch 2.54 mm)
pins: 1 X4 (io), 2 X6 (io), 3 X (io), 4 X7 (io), 5 X5 (io), 6 ~{EN} (in), 7 VEE (power), 8 GND (power), 9 C (in), 10 B (in), 11 A (in), 12 X3 (io), 13 X0 (io), 14 X1 (io), 15 X2 (io), 16 VCC (power)

## CD4052BC
designator U?
Dual 4-Channel Analog Multiplexer/Demultiplexer; Published: 15-Apr-2002; LatestRevisionDate: 06-Jun-2005; LatestRevisionNote: Stylized 3D Model Added.; DatasheetVersion: Oct-1989; PackageVersion: 2000; PackageReference: N16E; Publisher: Altium Limited; PackageDescription: DIP; 16 Leads; Row Spacing 7.62 mm; Pitch 2.54 mm; ComponentLink1Description: Manufacturer Link; ComponentLink1URL: http://www.national.com/; ComponentLink2Description: Datasheet; ComponentLink2URL: http://www.national.com/ds.cgi/CD/CD4051BC.pdf; ComponentLink3Description: URL Link1; ComponentLink3URL: http://www.national.com/pf/CD/CD4052BC.html
footprint N16E (DIP; 16 Leads; Row Spacing 7.62 mm; Pitch 2.54 mm)
3D model J16A (DIP; 16 Leads; Row Spacing 7.62 mm; Pitch 2.54 mm)
pins: 1 Y0 (io), 2 Y2 (io), 3 Y (io), 4 Y3 (io), 5 Y1 (io), 6 ~{EN} (in), 7 VEE (power), 8 GND (power), 9 B (in), 10 A (in), 11 X3 (io), 12 X0 (io), 13 X (io), 14 X1 (io), 15 X2 (io), 16 VCC (power)

## CD4052BCJ
designator U?
Dual 4-Channel Analog Multiplexer/Demultiplexer; Published: 15-Apr-2002; LatestRevisionDate: 06-Jun-2005; LatestRevisionNote: Stylized 3D Model Added.; DatasheetVersion: Oct-1989; PackageVersion: 2000; PackageReference: J16A; Publisher: Altium Limited; PackageDescription: DIP; 16 Leads; Row Spacing 7.62 mm; Pitch 2.54 mm; ComponentLink1Description: Manufacturer Link; ComponentLink1URL: http://www.national.com/; ComponentLink2Description: Datasheet; ComponentLink2URL: http://www.national.com/ds.cgi/CD/CD4051BC.pdf; ComponentLink3Description: URL Link1; ComponentLink3URL: http://www.national.com/pf/CD/CD4052BC.html
footprint J16A (DIP; 16 Leads; Row Spacing 7.62 mm; Pitch 2.54 mm)
3D model J16A (DIP; 16 Leads; Row Spacing 7.62 mm; Pitch 2.54 mm)
pins: 1 Y0 (io), 2 Y2 (io), 3 Y (io), 4 Y3 (io), 5 Y1 (io), 6 ~{EN} (in), 7 VEE (power), 8 GND (power), 9 B (in), 10 A (in), 11 X3 (io), 12 X0 (io), 13 X (io), 14 X1 (io), 15 X2 (io), 16 VCC (power)

## CD4052BM
designator U?
Dual 4-Channel Analog Multiplexer/Demultiplexer; Published: 15-Apr-2002; LatestRevisionDate: 06-Jun-2005; LatestRevisionNote: Stylized 3D Model Added.; DatasheetVersion: Oct-1989; PackageVersion: 2000; PackageReference: N16E; Publisher: Altium Limited; PackageDescription: DIP; 16 Leads; Row Spacing 7.62 mm; Pitch 2.54 mm; ComponentLink1Description: Manufacturer Link; ComponentLink1URL: http://www.national.com/; ComponentLink2Description: Datasheet; ComponentLink2URL: http://www.national.com/ds.cgi/CD/CD4051BC.pdf; ComponentLink3Description: URL Link1; ComponentLink3URL: http://www.national.com/pf/CD/CD4052BM.html
footprint N16E (DIP; 16 Leads; Row Spacing 7.62 mm; Pitch 2.54 mm)
3D model J16A (DIP; 16 Leads; Row Spacing 7.62 mm; Pitch 2.54 mm)
pins: 1 Y0 (io), 2 Y2 (io), 3 Y (io), 4 Y3 (io), 5 Y1 (io), 6 ~{EN} (in), 7 VEE (power), 8 GND (power), 9 B (in), 10 A (in), 11 X3 (io), 12 X0 (io), 13 X (io), 14 X1 (io), 15 X2 (io), 16 VCC (power)

## CD4052BMJ
designator U?
Dual 4-Channel Analog Multiplexer/Demultiplexer; Published: 15-Apr-2002; LatestRevisionDate: 06-Jun-2005; LatestRevisionNote: Stylized 3D Model Added.; DatasheetVersion: Oct-1989; PackageVersion: 2000; PackageReference: J16A; Publisher: Altium Limited; PackageDescription: DIP; 16 Leads; Row Spacing 7.62 mm; Pitch 2.54 mm; ComponentLink1Description: Manufacturer Link; ComponentLink1URL: http://www.national.com/; ComponentLink2Description: Datasheet; ComponentLink2URL: http://www.national.com/ds.cgi/CD/CD4051BC.pdf; ComponentLink3Description: URL Link1; ComponentLink3URL: http://www.national.com/pf/CD/CD4052BM.html
footprint J16A (DIP; 16 Leads; Row Spacing 7.62 mm; Pitch 2.54 mm)
3D model J16A (DIP; 16 Leads; Row Spacing 7.62 mm; Pitch 2.54 mm)
pins: 1 Y0 (io), 2 Y2 (io), 3 Y (io), 4 Y3 (io), 5 Y1 (io), 6 ~{EN} (in), 7 VEE (power), 8 GND (power), 9 B (in), 10 A (in), 11 X3 (io), 12 X0 (io), 13 X (io), 14 X1 (io), 15 X2 (io), 16 VCC (power)

## CD4053BC
designator U?
Triple 2-Channnel Analog Multiplexer/Demutiplexer; Published: 15-Apr-2002; LatestRevisionDate: 06-Jun-2005; LatestRevisionNote: Stylized 3D Model Added.; DatasheetVersion: Oct-1989; PackageVersion: 2000; PackageReference: N16E; Publisher: Altium Limited; PackageDescription: DIP; 16 Leads; Row Spacing 7.62 mm; Pitch 2.54 mm; ComponentLink1Description: Manufacturer Link; ComponentLink1URL: http://www.national.com/; ComponentLink2Description: Datasheet; ComponentLink2URL: http://www.national.com/ds.cgi/CD/CD4051BC.pdf; ComponentLink3Description: URL Link1; ComponentLink3URL: http://www.national.com/pf/CD/CD4053BC.html
footprint N16E (DIP; 16 Leads; Row Spacing 7.62 mm; Pitch 2.54 mm)
3D model J16A (DIP; 16 Leads; Row Spacing 7.62 mm; Pitch 2.54 mm)
pins: 1 Y1 (io), 2 Y0 (io), 3 Z1 (io), 4 Z (io), 5 Z0 (io), 6 ~{EN} (in), 7 VEE (power), 8 GND (power), 9 C (in), 10 B (in), 11 A (in), 12 X0 (io), 13 X1 (io), 14 X (io), 15 Y (io), 16 VCC (power)

## CD4053BCJ
designator U?
Triple 2-Channnel Analog Multiplexer/Demutiplexer; Published: 15-Apr-2002; LatestRevisionDate: 06-Jun-2005; LatestRevisionNote: Stylized 3D Model Added.; DatasheetVersion: Oct-1989; PackageVersion: 2000; PackageReference: J16A; Publisher: Altium Limited; PackageDescription: DIP; 16 Leads; Row Spacing 7.62 mm; Pitch 2.54 mm; ComponentLink1Description: Manufacturer Link; ComponentLink1URL: http://www.national.com/; ComponentLink2Description: Datasheet; ComponentLink2URL: http://www.national.com/ds.cgi/CD/CD4051BC.pdf; ComponentLink3Description: URL Link1; ComponentLink3URL: http://www.national.com/pf/CD/CD4053BC.html
footprint J16A (DIP; 16 Leads; Row Spacing 7.62 mm; Pitch 2.54 mm)
3D model J16A (DIP; 16 Leads; Row Spacing 7.62 mm; Pitch 2.54 mm)
pins: 1 Y1 (io), 2 Y0 (io), 3 Z1 (io), 4 Z (io), 5 Z0 (io), 6 ~{EN} (in), 7 VEE (power), 8 GND (power), 9 C (in), 10 B (in), 11 A (in), 12 X0 (io), 13 X1 (io), 14 X (io), 15 Y (io), 16 VCC (power)

## CD4053BM
designator U?
Triple 2-Channnel Analog Multiplexer/Demutiplexer; Published: 15-Apr-2002; LatestRevisionDate: 06-Jun-2005; LatestRevisionNote: Stylized 3D Model Added.; DatasheetVersion: Oct-1989; PackageVersion: 2000; PackageReference: N16E; Publisher: Altium Limited; PackageDescription: DIP; 16 Leads; Row Spacing 7.62 mm; Pitch 2.54 mm; ComponentLink1Description: Manufacturer Link; ComponentLink1URL: http://www.national.com/; ComponentLink2Description: Datasheet; ComponentLink2URL: http://www.national.com/ds.cgi/CD/CD4051BC.pdf; ComponentLink3Description: URL Link1; ComponentLink3URL: http://www.national.com/pf/CD/CD4053BM.html
footprint N16E (DIP; 16 Leads; Row Spacing 7.62 mm; Pitch 2.54 mm)
3D model J16A (DIP; 16 Leads; Row Spacing 7.62 mm; Pitch 2.54 mm)
pins: 1 Y1 (io), 2 Y0 (io), 3 Z1 (io), 4 Z (io), 5 Z0 (io), 6 ~{EN} (in), 7 VEE (power), 8 GND (power), 9 C (in), 10 B (in), 11 A (in), 12 X0 (io), 13 X1 (io), 14 X (io), 15 Y (io), 16 VCC (power)